# Altium schematic symbol library Q_PFET_NFET_6PIN.SchLib: 1 symbol
Pins are listed as number, name and electrical type; pins without a type are passive.

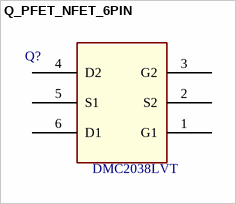
[diagram p0: symbol Q_PFET_NFET_6PIN]

## Q_PFET_NFET_6PIN
designator Q?, comment DMC2038LVT
Dual FET PFET and NFET
pins: 1 G1, 2 S2, 3 G2, 4 D2, 5 S1, 6 D1